# EAGLE library part MSX_DRIVE (library msx-con)
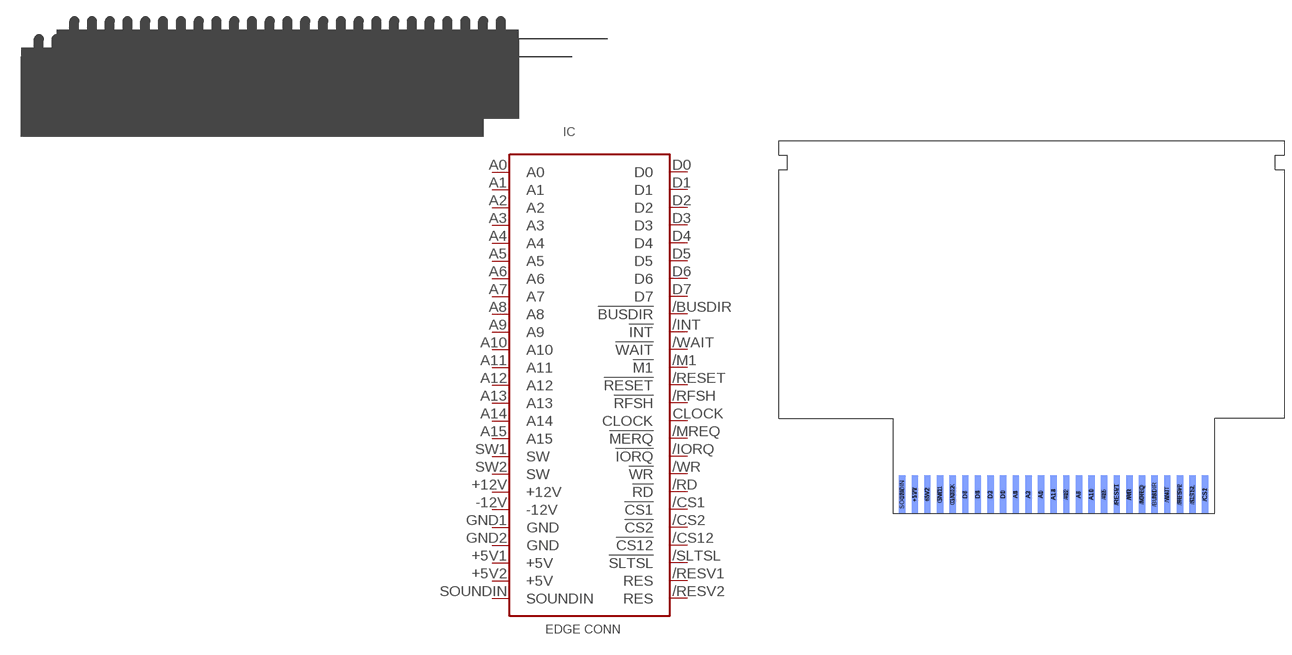
[diagram p2: symbol with the pads of DRIVE720KB; footprint DRIVE720KB]

Designator prefix IC

## MSX_DRIVE  [DRIVE720KB]
+5V1  +5V  sup
+5V2  +5V  sup
+12V  +12V  sup
-12V  -12V  sup
/BUSDIR  !BUSDIR  in
/CS1  !CS1  out
/CS2  !CS2  out
/CS12  !CS12  out
/INT  !INT  oc
/IORQ  !IORQ  out
/M1  !M1  out
/MREQ  !MERQ  out
/RD  !RD  out
/RESET  !RESET  out
/RESV1  RES  nc
/RESV2  RES  nc
/RFSH  !RFSH  out
/SLTSL  !SLTSL  out
/WAIT  !WAIT  oc
/WR  !WR  out
A0  A0  out
A1  A1  out
A2  A2  out
A3  A3  out
A4  A4  out
A5  A5  out
A6  A6  out
A7  A7  out
A8  A8  out
A9  A9  out
A10  A10  out
A11  A11  out
A12  A12  out
A13  A13  out
A14  A14  out
A15  A15  out
CLOCK  CLOCK  out
D0  D0
D1  D1
D2  D2
D3  D3
D4  D4
D5  D5
D6  D6
D7  D7
GND1  GND  sup
GND2  GND  sup
SOUNDIN  SOUNDIN  pas
SW1  SW  pas
SW2  SW  pas

## Footprint DRIVE720KB (pad centres in mm)
smd 1.27 x 7.62 bottom: +5V1 -22.86,-29.21; +5V2 -20.32,-29.21; /CS1 35.56,-29.21; /CS12 33.02,-29.21; /IORQ 22.86,-29.21; /M1 25.4,-29.21; /RESET 17.78,-29.21; /RESV2 30.48,-29.21; /WAIT 27.94,-29.21; /WR 20.32,-29.21; A1 2.54,-29.21; A3 0,-29.21; A5 -2.54,-29.21; A7 10.16,-29.21; A9 15.24,-29.21; A11 12.7,-29.21; A12 7.62,-29.21; A14 5.08,-29.21; D1 -5.08,-29.21; D3 -7.62,-29.21; D5 -10.16,-29.21; D7 -12.7,-29.21; GND1 -17.78,-29.21; GND2 -15.24,-29.21; SOUNDIN -25.4,-29.21
smd 1.27 x 7.62: +12V -22.86,-29.21; -12V -25.4,-29.21; /BUSDIR 25.4,-29.21; /CS2 35.56,-29.21; /INT 27.94,-29.21; /MREQ 22.86,-29.21; /RD 20.32,-29.21; /RESV1 17.78,-29.21; /RFSH 30.48,-29.21; /SLTSL 33.02,-29.21; A0 2.54,-29.21; A2 0,-29.21; A4 -2.54,-29.21; A6 10.16,-29.21; A8 7.62,-29.21; A10 12.7,-29.21; A13 5.08,-29.21; A15 15.24,-29.21; CLOCK -15.24,-29.21; D0 -5.08,-29.21; D2 -7.62,-29.21; D4 -10.16,-29.21; D6 -12.7,-29.21; SW1 -17.78,-29.21; SW2 -20.32,-29.21